# EAGLE library part _CON_PIC_ICSP_TH (library SamacSys_Parts)
Molex KK 254 171856, 2.54mm Pitch, 6 Way, 1 Row, Straight PCB Header, Through Hole Source: Datasheet <https://www.molex.com/pdm_docs/sd/1718560006_sd.pdf>
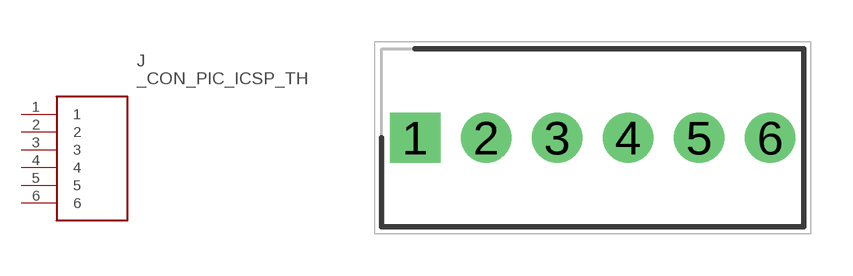
[diagram p22: symbol with the pads of HDRV6W99P0X254_1X6_1509X635X11; footprint HDRV6W99P0X254_1X6_1509X635X11]

Designator prefix J

## _CON_PIC_ICSP_TH (DESCRIPTION: Molex KK 254 171856, 2.54mm Pitch, 6 Way, 1 Row, Straight PCB Header, Through Hole; HEIGHT: 11mm; MANUFACTURER_NAME: Molex; MANUFACTURER_PART_NUMBER: 171856-0006; MOUSER_PART_NUMBER: 538-171856-0006; MOUSER_PRICE-STOCK: https://www.mouser.co.uk/ProductDetail/Molex/171856-0006?qs=s7UCm7gO1bZ%2FF4kPA9T7bA%3D%3D)  [HDRV6W99P0X254_1X6_1509X635X11]
1  1
2  2
3  3
4  4
5  5
6  6

## Footprint HDRV6W99P0X254_1X6_1509X635X11 (pad centres in mm)
171856-0006
drill 1.2 pad 1.8 square: 1 0,0
drill 1.2 pad 1.8: 2 2.54,0; 3 5.08,0; 4 7.62,0; 5 10.16,0; 6 12.7,0